# Altium schematic symbol library Real_Steel_Robotics.SchLib: 16 symbols
Pins are listed as number, name and electrical type; pins without a type are passive.

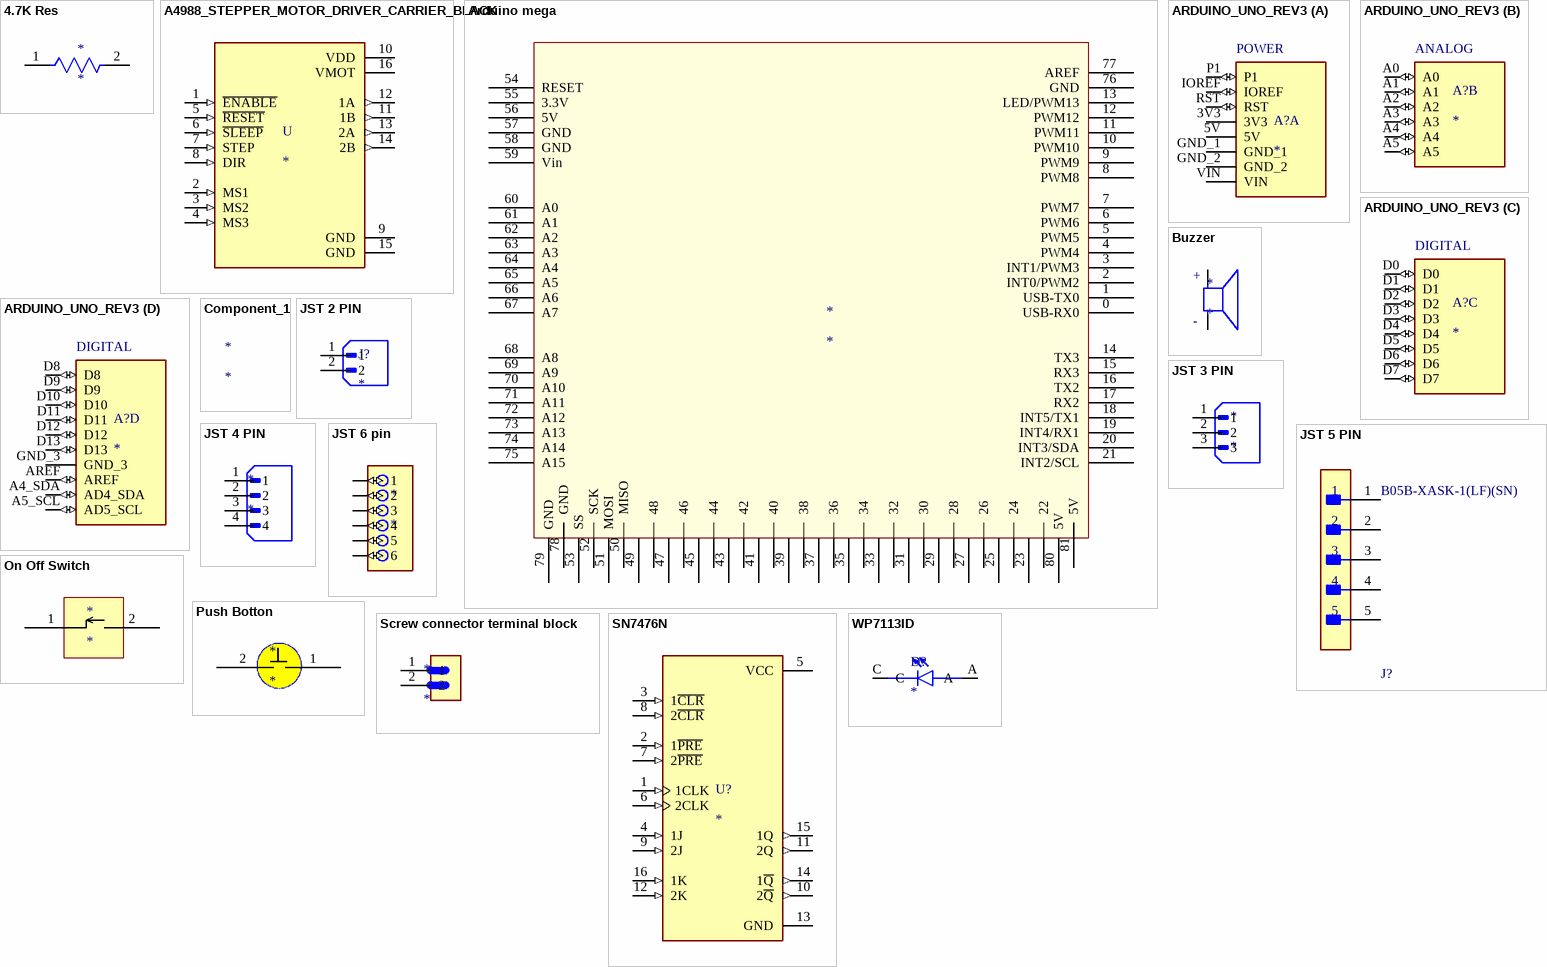
[diagram p0: symbols 4.7K Res to WP7113ID]

## 4.7K Res
designator *
footprint 4.7K res
pins: 1, 2

## A4988_STEPPER_MOTOR_DRIVER_CARRIER_BLACK
designator U
Stepper motor controler; IC: A4988; 1.2A; Uin mot: 8Ã·35V; MF: Pololu; MP: A4988 STEPPER MOTOR DRIVER CARRIER BLACK; SnapEDA_Link: https://www.snapeda.com/parts/A4988%20STEPPER%20MOTOR%20DRIVER%20CARRIER%20BLACK/Pololu/view-part/1450050/?ref=snap; Value: *; Availability: Unavailable; Price: None; Package: None
footprint MODULE_A4988_STEPPER_MOTOR_DRIVER_CARRIER_BLACK
pins: 1 ~{ENABLE} (in), 2 MS1 (in), 3 MS2 (in), 4 MS3 (in), 5 ~{RESET} (in), 6 ~{SLEEP} (in), 7 STEP (in), 8 DIR (in), 9 GND (power), 10 VDD (power), 11 1B (out), 12 1A (out), 13 2A (out), 14 2B (out), 15 GND (power), 16 VMOT (power)

## Arduino mega
designator *
footprint Arduino mega
pins: 0 USB-RX0, 1 USB-TX0, 2 INT0/PWM2, 3 INT1/PWM3, 4 PWM4, 5 PWM5, 6 PWM6, 7 PWM7, 8 PWM8, 9 PWM9, 10 PWM10, 11 PWM11, 12 PWM12, 13 LED/PWM13, 14 TX3, 15 RX3, 16 TX2, 17 RX2, 18 INT5/TX1, 19 INT4/RX1, 20 INT3/SDA, 21 INT2/SCL, 22, 23, 24, 25, 26, 27, 28, 29, 30, 31, 32, 33, 34, 35, 36, 37, 38, 39, 40, 41, 42, 43, 44, 45, 46, 47, 48, 49, 50 MISO, 51 MOSI, 52 SCK, 53 SS, 54 RESET, 55 3.3V, 56 5V, 57 GND, 58 GND, 59 Vin, 60 A0, 61 A1, 62 A2, 63 A3, 64 A4, 65 A5, 66 A6, 67 A7, 68 A8, 69 A9, 70 A10, 71 A11, 72 A12, 73 A13, 74 A14, 75 A15, 76 GND, 77 AREF, 78 GND, 79 GND, 80 5V, 81 5V

## ARDUINO_UNO_REV3
designator A?
Microcontroller board based on the ATmega328P.; MF: Arduino; MP: ARDUINO UNO REV3; SnapEDA_Link: https://www.snapeda.com/parts/ARDUINO%20UNO%20REV3/Arduino/view-part/?ref=snap; Package: Non-Standard Arduino; Value: *; Check_prices: https://www.snapeda.com/parts/ARDUINO%20UNO%20REV3/Arduino/view-part/?ref=eda
footprint ARDUINO_ARDUINO_UNO_REV3
part A pins: 3V3 (power), 5V (power), GND_1 (power), GND_2 (power), IOREF (io), P1 (io), RST (io), VIN (power)
part B pins: A0 (io), A1 (io), A2 (io), A3 (io), A4 (io), A5 (io)
part C pins: D0 (io), D1 (io), D2 (io), D3 (io), D4 (io), D5 (io), D6 (io), D7 (io)
part D pins: A4_SDA AD4_SDA (io), A5_SCL AD5_SCL (io), AREF (io), D8 (io), D9 (io), D10 (io), D11 (io), D12 (io), D13 (io), GND_3 (power)
part A text: POWER
part B text: ANALOG
part C text: DIGITAL
part D text: DIGITAL

## Buzzer
designator *
footprint Buzzer
pins: N, P
text: +; -

## Component_1
designator *

## JST 2 PIN
designator J?
Connector Header Through Hole 2 position 0.098 (2.50mm); MF: JST Sales; MP: B2B-XH-A (LF)(SN); SnapEDA_Link: https://www.snapeda.com/parts/B2B-XH-A%20(LF)(SN)/JST+Sales+America+Inc./view-part/?ref=snap; Package: None; Value: *; Check_prices: https://www.snapeda.com/parts/B2B-XH-A%20(LF)(SN)/JST+Sales+America+Inc./view-part/?ref=eda
footprint JST 2 PIN
pins: 1, 2

## JST 3 PIN
designator *
footprint JST 3 PIN
pins: 1, 2, 3

## JST 4 PIN
designator *
footprint JST 4 PIN
pins: 1, 2, 3, 4

## JST 5 PIN
designator J?, comment B05B-XASK-1(LF)(SN)
CONN HEADER VERT 5POS 2.5MM; Current Rating: 3A; Number of Positions: 5; Voltage Rating: 250V; Lead Length: 3.4mm; Wire/Cable Gauge: 20AWG; Insulation Resistance: 1GR; Gender: Male; Mated Stacking Heights: 11.3mm; Contact Resistance: 10mR; Flammability Rating: UL94 V-0; Max Operating Temperature: 85°C; Number of Rows: 1; Contact Shape: Circular; Pitch: 2.5mm; Orientation: Straight; Color: Beige; Termination: Solder; Number of Pins: 5; Packaging: Bulk; Length: 15mm; Height: 8.8mm; Number of Contacts: 5; Insulation Material: Nylon; Fastening Type: Ramp; Contact Plating: Tin; Connector Type: Header; Voltage Rating (AC): 250V; Mount: Through Hole; Contact Finish - Mating: TIN; Number of Poles: 5; Material: Nylon; Contact Material: Copper Alloy; Insulation Color: Natural; Lead Free: Lead Free; Contact Type: Male Pin; REACH SVHC: No SVHC; Series: XA; Voltage Rating (DC): 250V; Width: 6.4mm; Min Operating Temperature: -25°C
footprint JST 5 PIN
pins: 1, 2, 3, 4, 5

## JST 6 pin
designator *
Header B6B-ZR, 1.50mm, 6-contacts, top entry, THT, /2000/box; Manufacturer: JST; Supplier: Digikey; Supplier Part Number: 455-B6B-ZR-ND; Manufacturer Part Number: B6B-ZR; RoHS: Yes; Category: Board to Board Connectors; Stock: 39862; Pricing: 1=0.2, 10=0.168, 100=0.143, 500=0.12762, 2000=0.11571, 6000=0.10707, 10000=0.10328 (USD); ComponentLink1URL: https://datasheet.ciiva.com/6905/zhconnector-6905949.pdf?src-supplier=Digikey; ComponentLink1Description: https://datasheet.ciiva.com/6905/zhconnector-6905949.pdf?src-supplier=Digikey
footprint JST 6 PIN
pins: 1 (io), 2 (io), 3 (io), 4 (io), 5 (io), 6 (io)

## On Off Switch
designator *
footprint Switch
pins: 1 P27, 2

## Push Botton
designator *
footprint Push botton
pins: 1 P30, 2 P29

## Screw connector terminal block
designator *
footprint Screw Connector
pins: 1, 2

## SN7476N
designator U?
Flip Flops Dual J-K Positive-Edge-Triggered Flip-Flops with Preset and Clear 16-PDIP 0 to 70; MF: Texas Instruments; MP: SN7476N; SnapEDA_Link: https://www.snapeda.com/parts/SN7476N/Texas+Instruments/view-part/?ref=snap; Package: PDIP-16 Texas Instruments; Value: *; Check_prices: https://www.snapeda.com/parts/SN7476N/Texas+Instruments/view-part/?ref=eda
footprint SN7476 IC
pins: 1 1CLK (in), 2 1~{PRE} (in), 3 1~{CLR} (in), 4 1J (in), 5 VCC (power), 6 2CLK (in), 7 2~{PRE} (in), 8 2~{CLR} (in), 9 2J (in), 10 2~{Q} (out), 11 2Q (out), 12 2K (in), 13 GND (power), 14 1~{Q} (out), 15 1Q (out), 16 1K (in)

## WP7113ID
designator D?
Red 617nm LED Indication - Discrete 2V Radial; MP: WP7113ID; MF: Kingbright; Price: None; Package: Radial Kingbright; Check_prices: https://www.snapeda.com/parts/WP7113ID/Kingbright/view-part/?ref=eda; Purchase-URL: https://pricing.snapeda.com/search/part/WP7113ID/?ref=eda; Availability: In Stock; Value: *; SnapEDA_Link: https://www.snapeda.com/parts/WP7113ID/Kingbright/view-part/?ref=snap
footprint LED_WP7113ID
pins: A, C